# EAGLE library part ADM1293 (library Leo_Library)
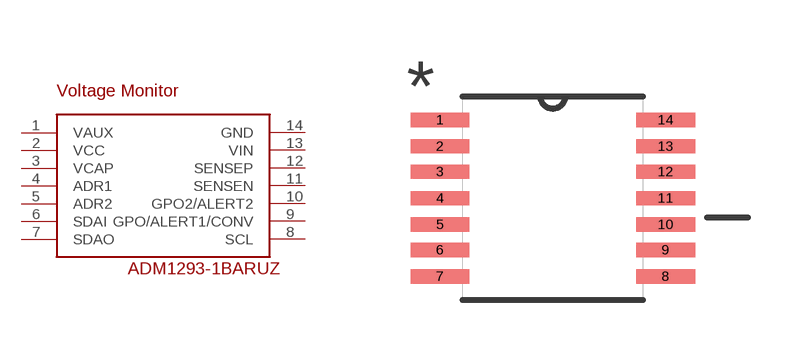
[diagram p0: symbol with the pads of SOP65P640X120-14N; footprint SOP65P640X120-14N]

Designator prefix -

## ADM1293  [SOP65P640X120-14N]
1  VAUX
2  VCC
3  VCAP
4  ADR1
5  ADR2
6  SDAI
7  SDAO
8  SCL
9  GPO/ALERT1/CONV
10  GPO2/ALERT2
11  SENSEN
12  SENSEP
13  VIN
14  GND

## Footprint SOP65P640X120-14N (pad centres in mm)
smd 1.473 x 0.356: 1 -2.819,1.956; 2 -2.819,1.295; 3 -2.819,0.66; 4 -2.819,0; 5 -2.819,-0.66; 6 -2.819,-1.295; 7 -2.819,-1.956; 8 2.819,-1.956; 9 2.819,-1.295; 10 2.819,-0.66; 11 2.819,0; 12 2.819,0.66; 13 2.819,1.295; 14 2.819,1.956